# Altium schematic symbol library Motorshield.SchLib: 6 symbols
Pins are listed as number, name and electrical type; pins without a type are passive.

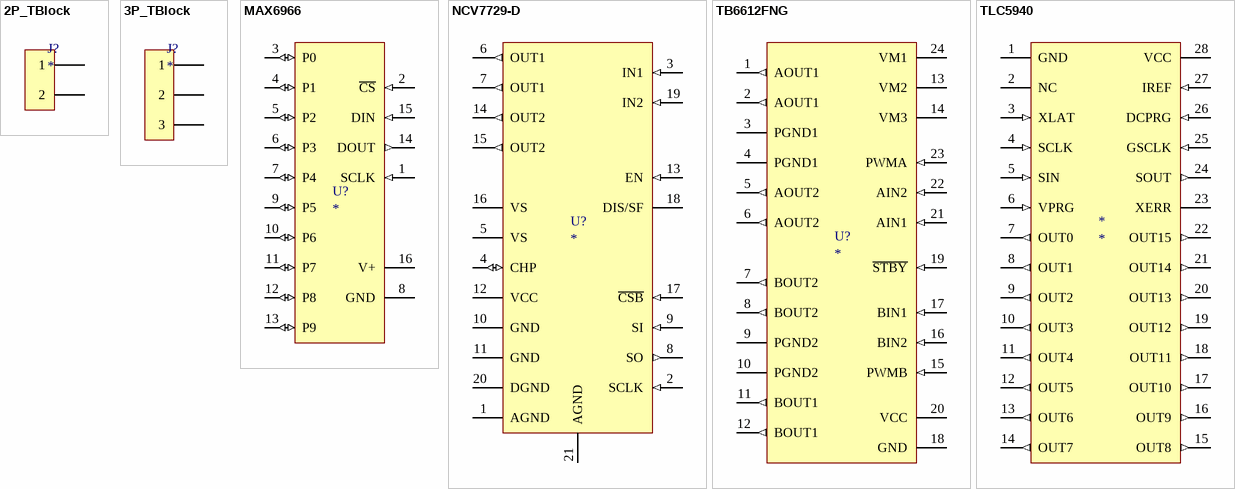
[diagram p0: symbols 2P_TBlock to TLC5940]

## 2P_TBlock
designator J?
2 Pin Terminal Block
footprint 2P_TBlock (2 Pin Terminal Block (3.5mm pitch))
pins: 1, 2 (power)

## 3P_TBlock
designator J?
3 Pin Terminal Block
footprint 3P_TBlock (3 Pin Terminal Block (3.5mm pitch))
pins: 1, 2 (power), 3 (power)

## MAX6966
designator U?
10-Port Constant-Current LED Drivers and I/O  Expanders with PWM Intensity Control
footprint QSOP-QR16_L (SOP, 16-Leads, Body 4.9x3.9mm, Pitch 0.635mm, IPC High Density)
footprint QSOP-QR16_M (SOP, 16-Leads, Body 4.9x3.9mm, Pitch 0.635mm, IPC Low Density)
footprint QSOP-QR16_N (SOP, 16-Leads, Body 4.9x3.9mm, Pitch 0.635mm, IPC Medium Density)
pins: 1 SCLK (in), 2 ~{CS} (in), 3 P0 (io), 4 P1 (io), 5 P2 (io), 6 P3 (io), 7 P4 (io), 8 GND (power), 9 P5 (io), 10 P6 (io), 11 P7 (io), 12 P8 (io), 13 P9 (io), 14 DOUT (out), 15 DIN (in), 16 V+ (power)

## NCV7729-D
designator U?
SPI Controlled Fully Protected H-Bridge Driver
pins: 1 AGND (power), 2 SCLK (in), 3 IN1 (in), 4 CHP (io), 5 VS (power), 6 OUT1 (out), 7 OUT1 (out), 8 SO (out), 9 SI (in), 10 GND (power), 11 GND (power), 12 VCC (power), 13 EN (in), 14 OUT2 (out), 15 OUT2 (out), 16 VS (power), 17 ~{CSB} (in), 18 DIS/SF (oc), 19 IN2 (in), 20 DGND (power), 21 AGND (power)

## TB6612FNG
designator U?
Driver IC for Dual DC motor
footprint SSOP-SS24_L (SOP, 24-Leads, Body 8.2x5.3mm, Pitch 0.65mm, IPC High Density)
footprint SSOP-SS24_M (SOP, 24-Leads, Body 8.2x5.3mm, Pitch 0.65mm, IPC Low Density)
footprint SSOP-SS24_N (SOP, 24-Leads, Body 8.2x5.3mm, Pitch 0.65mm, IPC Medium Density)
pins: 1 AOUT1 (out), 2 AOUT1 (out), 3 PGND1 (power), 4 PGND1 (power), 5 AOUT2 (out), 6 AOUT2 (out), 7 BOUT2 (out), 8 BOUT2 (out), 9 PGND2 (power), 10 PGND2 (power), 11 BOUT1 (out), 12 BOUT1 (out), 13 VM2 (power), 14 VM3 (power), 15 PWMB (in), 16 BIN2 (in), 17 BIN1 (in), 18 GND (power), 19 ~{STBY} (in), 20 VCC (power), 21 AIN1 (in), 22 AIN2 (in), 23 PWMA (in), 24 VM1 (power)

## TLC5940
designator *
pins: 1 GND (power), 2 NC, 3 XLAT (in), 4 SCLK (in), 5 SIN (in), 6 VPRG (in), 7 OUT0 (out), 8 OUT1 (out), 9 OUT2 (out), 10 OUT3 (out), 11 OUT4 (out), 12 OUT5 (out), 13 OUT6 (out), 14 OUT7 (out), 15 OUT8 (out), 16 OUT9 (out), 17 OUT10 (out), 18 OUT11 (out), 19 OUT12 (out), 20 OUT13 (out), 21 OUT14 (out), 22 OUT15 (out), 23 XERR (oc), 24 SOUT (out), 25 GSCLK (in), 26 DCPRG (in), 27 IREF (in), 28 VCC (power)